# EAGLE library part LED_BAR_10 (library wheat)
10-SEGMENT LED BAR GRAPH
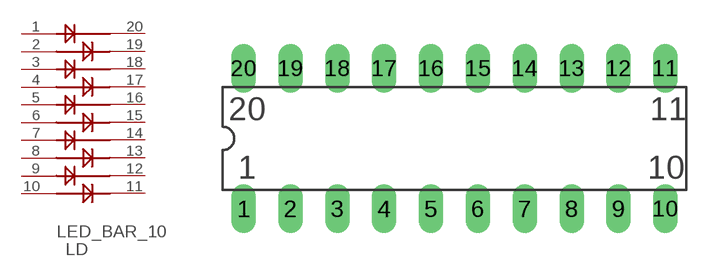
[diagram p39: symbol with the pads of DIP20; footprint DIP20]

Designator prefix LD

## LED_BAR_10  [DIP20]
1  P$1  pas
2  P$2  pas
3  P$3  pas
4  P$4  pas
5  P$5  pas
6  P$6  pas
7  P$7  pas
8  P$8  pas
9  P$9  pas
10  P$10  pas
11  P$11  pas
12  P$12  pas
13  P$13  pas
14  P$14  pas
15  P$15  pas
16  P$16  pas
17  P$17  pas
18  P$18  pas
19  P$19  pas
20  P$20  pas

## Footprint DIP20 (pad centres in mm)
20 PIN DIP .3 C
drill 0.813 long: 1 0,0; 2 2.54,0; 3 5.08,0; 4 7.62,0; 5 10.16,0; 6 12.7,0; 7 15.24,0; 8 17.78,0; 9 20.32,0; 10 22.86,0; 11 22.86,7.62; 12 20.32,7.62; 13 17.78,7.62; 14 15.24,7.62; 15 12.7,7.62; 16 10.16,7.62; 17 7.62,7.62; 18 5.08,7.62; 19 2.54,7.62; 20 0,7.62